# EAGLE library part DUAL_ENCODER_RIEGEL_LIEGEND (library roboternetz_definitionen)
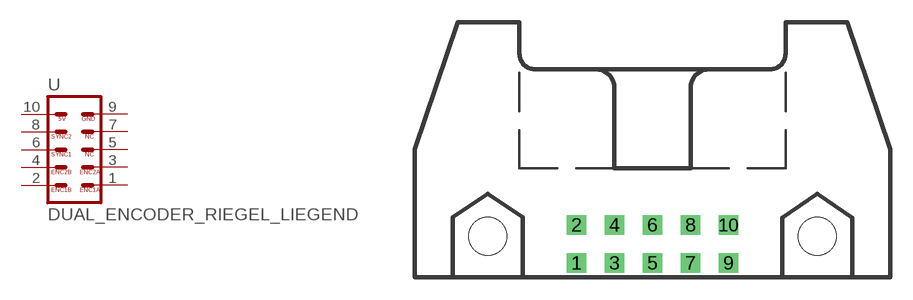
[diagram p44: symbol with the pads of 3M_10L; footprint 3M_10L]

Designator prefix -

## DUAL_ENCODER_RIEGEL_LIEGEND  [3M_10L]
1  1  pas
2  2  pas
3  3  pas
4  4  pas
5  5  pas
6  6  pas
7  7  pas
8  8  pas
9  9  pas
10  10  pas

## Footprint 3M_10L (pad centres in mm)
3M
drill 0.813 square: 1 -5.08,-5.08; 2 -5.08,-2.54; 3 -2.54,-5.08; 4 -2.54,-2.54; 5 0,-5.08; 6 0,-2.54; 7 2.54,-5.08; 8 2.54,-2.54; 9 5.08,-5.08; 10 5.08,-2.54
hole 2.54 at -10.998,-3.277
hole 2.54 at 10.998,-3.277